# Altium schematic symbol library Resistor.SchLib: 141 symbols (part 3 of 4)
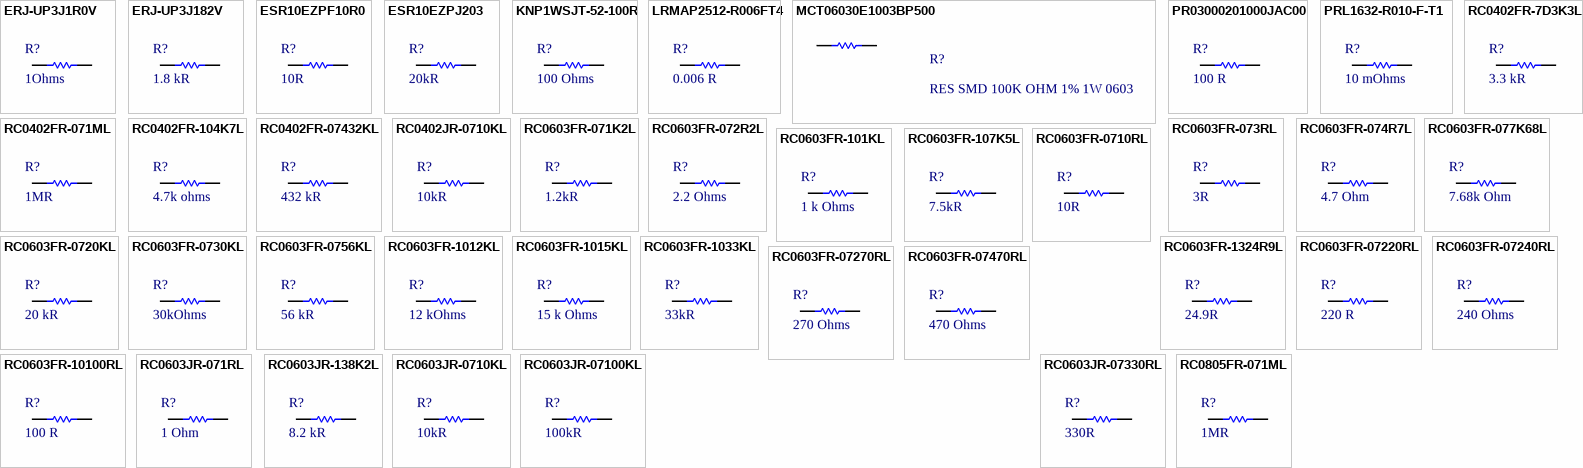
[diagram p5: symbols ERJ-UP3J1R0V to RC0805FR-071ML]

## ESR10EZPJ203
designator R?, comment 20kR
RES SMD 20K OHM 5% 2/5W 0805; Manufacturer: ROHM Semiconductor; Part Number: ESR10EZPJ203; Temperature Coefficient: 200 PPM / C; Power Rating: 400 mW(2/5 W); Voltage Rating: 150 V; Library Control - Checked Footprint: No; Library Control - Checked Schematic: Yes; Library Control - Person that Checked Schematic: Marcos; Library Control - Person that did the Last Update Footprint: Dalarme; Supplier 1: Mouser; Category: Thick Film Resistors - SMD; Price: 1=0,10, 10=0,076, 100=0,03 1000=0,012 (USD); Package / Case: 0805 (2012 Metric); Operating Temperature: - 55ºC ~ 155ºC; Value: 20kR; Tolerance: 5 %; Library Ref: Resistor; Resistor Type: Fixo; Size / Dimension: 2 mm L x  1.25 mm W x  0.55 mm H; Supplier Part Number 1: 755-ESR10EZPJ203; Library Control - Last Update: 21/06/21 15:33; Library Control - Person that did the Last Update Schematic: Marcos; ComponentLink1Description: Mouser Link; ComponentLink1URL: https://www.mouser.com/ProductDetail/ROHM-Semiconductor/ESR10EZPJ203?qs=DyUWGjl%252BcVvaVDHUMS24rg%3D%3D; ComponentLink2Description: Datasheet Link; ComponentLink2URL: https://www.mouser.com/datasheet/2/348/esr_e-1139161.pdf
footprint RESISTOR_0805
pins: 1, 2

## KNP1WSJT-52-100R
designator R?, comment 100 Ohms
RES PTH 100 OHM 5% 1W Axial; Manufacturer: YAGEO; Part Number: KNP1WSJT-52-100R; Temperature Coefficient: 300 PPM / C; Voltage Rating: 300V; Supplier 1: Mouser; Category: Wirewound Resistors - Through Hole; Price: 1= 0,22, 10= 0,13, 100= 0,053 (USD); Package / Case: Cut Tape; Operating Temperature: -40C ~ +200C; Value: 100 Ohms; Tolerance: 5%; Power Rating: 1 W; Library Ref: Resistor; Resistor Type: Fixed; Size / Dimension: 9mm/3.3mm; Supplier Part Number 1: 652-CFN0402-FX-R010E; ComponentLink1Description: Mouser Link; ComponentLink1URL: https://br.mouser.com/ProductDetail/YAGEO/KNP1WSJT-52-100R?qs=8rC6kCrFYJmohQ4OuMd4Fw%3D%3D; ComponentLink2Description: Datasheet; ComponentLink2URL: https://br.mouser.com/datasheet/2/447/yagos02165_1-2286674.pdf
footprint RESISTOR_THROUGH_HOLE
pins: 1, 2

## LRMAP2512-R006FT4
designator R?, comment 0.006 R
RES SMD 0.006 OHM 1% 3W 2512; Manufacturer: Welwyn Components / TT Electronics; Part Number: LRMAP2512-R006FT4; Temperature Coefficient: 50 PPM / C; Library Control - Checked Footprint: Yes; Library Control - Person that Checked Footprint: Nikaum; Library Control - Person that did the Last Update Footprint: Nicolas; Supplier 1: Mouser; Category: Current Sense Resistors - SMD; Price: 1 = 0,56, 25 = 0,403, 100 = 0,331 (USD); Package / Case: 2512 (6432 metric); Operating Temperature: - 55 C~170 C; Value: 0.006 R; Tolerance: 1%; Power Rating: 3 W; Voltage Rating: -; Library Ref: Resistor; Resistor Type: Fixo; Size / Dimension: 6,40 L x 3,20 W x 0,65 H; Supplier Part Number 1: 756-LRMAP2512R006FT4; Library Control - Checked Schematic: Yes; Library Control - Last Update: 27/06/2021 21:35; Library Control - Person that Checked Schematic: Nikaum; Library Control - Person that did the Last Update Schematic: Nikaum; ComponentLink1Description: Mouser Link; ComponentLink1URL: https://br.mouser.com/ProductDetail/Welwyn-Components-TT-Electronics/LRMAP2512-R006FT4?qs=GbEj%2Fc2lfnfWcu9yMDcoiQ%3D%3D; ComponentLink2Description: Datasheet Link; ComponentLink2URL: https://br.mouser.com/datasheet/2/414/LRMA-1528276.pdf
footprint RESISTOR_2512_SHUNT
pins: 1, 2

## MCT06030E1003BP500
designator R?, comment RES SMD 100K OHM 1% 1W 0603
footprint RESISTOR_0603
pins: 1, 2

## PR03000201000JAC00
designator R?, comment 100 R
RES PTH 100 OHM 5% 3W; Manufacturer: Vishay / BC Components; Part Number: PR03000201000JAC00; Temperature Coefficient: 250 PPM / C; Voltage Rating: 750 V; Library Control - Checked Footprint: Yes; Library Control - Person that Checked Footprint: Nikaum; Supplier 1: Mouser; Category: Metal Film Resistors - Through Hole; Price: 1 = 0,53, 100 = 0,286 (USD); Package / Case: Ammo Pack; Operating Temperature: - 55°C ~ 155°C; Value: 100 R; Tolerance: 5 %; Power Rating: 3 W; Library Ref: Resistor; Resistor Type: Fixed; Size / Dimension: 5,20 D x 16,70 L x 0,78 LD; Supplier Part Number 1: 594-5093NW100R0J; Library Control - Checked Schematic: Yes; Library Control - Last Update: 27/06/2021 20:43; Library Control - Person that Checked Schematic: Nikaum; Library Control - Person that did the Last Update Footprint: Nikaum; Library Control - Person that did the Last Update Schematic: Nikaum; ComponentLink1Description: Mouser Link; ComponentLink1URL: https://br.mouser.com/ProductDetail/Vishay-BC-Components/PR03000201000JAC00/?qs=HbLW8Yl3MFzoQdcSX5YM3A%3D%3D; ComponentLink2Description: Datasheet; ComponentLink2URL: https://br.mouser.com/datasheet/2/427/pr010203-1762580.pdf
footprint RESISTOR_THROUGH_HOLE
pins: 1, 2

## PRL1632-R010-F-T1
designator R?, comment 10 mOhms
RES SMD 10m Ohms 1% 1W 0612; Manufacturer: Susumu; Part Number: PRL1632-R010-F-T1; Temperature Coefficient: 0 PPM / C, +200 PPM / C; Library Control - Checked Footprint: Guilherme; Library Control - Last Project that Used: Fuijin-MK1; Supplier 1: Mouser; Category: Current Sense Resistors - SMD; Price: 1=0,69, 10=0,573, 100=0,384 (USD); Package / Case: 0612 (1632 Metric) (Reversed); Operating Temperature: - 40ºC ~ 125ºC; Value: 10 mOhms; Tolerance: 1%; Power Rating: 1 W; Library Ref: Resistor; Resistor Type: Fixo; Size / Dimension: 3,2 mm L x  1,6 mm W x  0,5 mm H; Supplier Part Number 1: 754-PRL1632-R010-FT1; Library Control - Checked Schematic: Guilherme; Library Control - Last Update: 17/07/21 13:17; Library Control - Person that Checked Footprint: Guilherme; Library Control - Person that Checked Schematic: Guilherme; Library Control - Person that did the Last Update Footprint: Guilherme; Library Control - Person that did the Last Update Schematic: Guilherme; ComponentLink1Description: Mouser Link; ComponentLink1URL: https://br.mouser.com/ProductDetail/Susumu/PRL1632-R010-F-T1?qs=%2Fha2pyFaduj75t3m8ty6AH76ugEyHZWP2N3BDRX2NOUYQUdKRtCIzQ%3D%3D; ComponentLink2Description: Datasheet Link; ComponentLink2URL: https://br.mouser.com/datasheet/2/392/n_catalog_partition07_en-1114612.pdf
footprint RESISTOR_1632
pins: 1, 2

## RC0402FR-7D3K3L
designator R?, comment 3.3 kR
RES SMD 3.3K OHM 1% 1/16W 0402; Manufacturer: Yageo; Part Number: RC0402FR-7D3K3L; Temperature Coefficient: 100 PPM / C; Power Rating: 62.5mW (1/16 W); Voltage Rating: 50 V; Library Control - Checked Footprint: Yes; Library Control - Person that Checked Footprint: Nikaum; Library Control - Person that did the Last Update Footprint: Nicolas; Supplier 1: Mouser; Category: Thick Film Resistors - SMD; Price: 1 = 0,10, 10 = 0,012, 100 = 0,004 (USD); Package / Case: 0402 (1005 metric); Operating Temperature: - 55 C~155 C; Value: 3.3 kR; Tolerance: 1 %; Library Ref: Resistor; Resistor Type: Fixo; Size / Dimension: 1,00 L x 0,50 W x 0,35 H; Supplier Part Number 1: 603-RC0402FR-7D3K3L; Library Control - Checked Schematic: Yes; Library Control - Last Update: 27/06/2021 21:09; Library Control - Person that Checked Schematic: Nikaum; Library Control - Person that did the Last Update Schematic: Nikaum; ComponentLink1Description: Mouser Link; ComponentLink1URL: https://br.mouser.com/ProductDetail/Yageo/RC0402FR-7D3K3L?qs=F5EMLAvA7IAfc9MDqhvj6Q%3D%3D; ComponentLink2Description: Datasheet Link; ComponentLink2URL: https://www.mouser.com/datasheet/2/447/PYu_RC_Group_51_RoHS_L_11-1984063.pdf
footprint RESISTOR_0402
pins: 1, 2

## RC0402FR-071ML
designator R?, comment 1MR
RES SMD 1M OHM 1% 1/16W 0402; Manufacturer: Yageo; Part Number: RC0402FR-071ML; Temperature Coefficient: 100 PPM / C; Power Rating: 62.5 mW (1/16 W); Voltage Rating: 50 V; Library Control - Checked Footprint: No; Library Control - Checked Schematic: Yes; Library Control - Person that Checked Schematic: Marcos; Library Control - Person that did the Last Update Footprint: Dalarme; Supplier 1: Mouser; Category: Thick Film Resistors - SMD; Price: 1=0,10, 10=0,012, 100=0,004 1000=0,003(USD); Package / Case: 0402 (1005 Metric); Operating Temperature: - 55ºC ~ 155ºC; Value: 1MR; Tolerance: 1 %; Library Ref: Resistor; Resistor Type: Fixo; Size / Dimension: 1 mm L x  0.5 mm W x  0.35 mm H; Supplier Part Number 1: 603-RC0402FR-071ML; Library Control - Last Update: 21/06/21 14:58; Library Control - Person that did the Last Update Schematic: Marcos; ComponentLink1Description: Mouser Link; ComponentLink1URL: https://br.mouser.com/ProductDetail/Yageo/RC0402FR-071ML?qs=%2Fha2pyFadugksLQP8sr8wZXmL%2F2We%252Bo7V7jdq5tRnxderr6VjPnrkg%3D%3D; ComponentLink2Description: Datasheet Link; ComponentLink2URL: https://br.mouser.com/datasheet/2/447/PYu_RC_Group_51_RoHS_L_10-1664068.pdf
footprint RESISTOR_0402
pins: 1, 2

## RC0402FR-104K7L
designator R?, comment 4.7k ohms
RES SMD 4.7k OHM 1% 1/16W 0402; Manufacturer: Yageo; Part Number: RC0402FR-104K7L; Temperature Coefficient: 100 PPM / C; Power Rating: 62.5 mW (1/16 W); Voltage Rating: 50 V; Library Control - Checked Footprint: Yes; Library Control - Person that Checked Footprint: Guilherme; Supplier 1: Mouser; Category: Thick Film Resistors - SMD; Price: 1=0,10, 10=0,012, 100=0,004 (USD); Package / Case: 0402 (1005 Metric); Operating Temperature: - 55ºC ~ 155ºC; Value: 4.7k ohms; Tolerance: 1 %; Library Ref: Resistor; Resistor Type: Fixed; Size / Dimension: 1.0 mm L x  0.5 mm W x  0.35 mm H; Supplier Part Number 1: 603-RC0402FR-104K7L; Library Control - Checked Schematic: Yes; Library Control - Last Update: 15/08/2021 20:20; Library Control - Person that Checked Schematic: Guilherme; Library Control - Person that did the Last Update Footprint: Guilherme; Library Control - Person that did the Last Update Schematic: Guilherme; ComponentLink1Description: Mouser Link; ComponentLink1URL: https://br.mouser.com/ProductDetail/YAGEO/RC0402FR-104K7L?qs=sGAEpiMZZMtlubZbdhIBIEgN9MQql2m68RLXfKuGLtY%3D; ComponentLink2Description: Datasheet; ComponentLink2URL: https://br.mouser.com/datasheet/2/447/PYu_RC_Group_51_RoHS_L_10-1664068.pdf
footprint RESC1005X40N
pins: 1, 2

## RC0402FR-07432KL
designator R?, comment 432 kR
RES SMD 432K OHM 1% 1/16W 0402; Manufacturer: Yageo; Part Number: RC0402FR-07432KL; Temperature Coefficient: 100 PPM / C; Power Rating: 125mW (1/8 W); Voltage Rating: 50 V; Library Control - Checked Footprint: Yes; Library Control - Person that Checked Footprint: Nikaum; Library Control - Person that did the Last Update Footprint: Nicolas; Supplier 1: Mouser; Category: Thick Film Resistors - SMD; Price: 1 = 0,10, 10 = 0,012, 100 = 0,004 (USD); Package / Case: 0402 (1005 metric); Operating Temperature: -55 C ~ 155 C; Value: 432 kR; Tolerance: 1 %; Library Ref: Resistor; Resistor Type: Fixo; Size / Dimension: 1,00 L x 0,50 W x 0,35 H; Supplier Part Number 1: 603-RC0402FR-07432KL; Library Control - Checked Schematic: Yes; Library Control - Last Update: 27/06/2021 21:43; Library Control - Person that Checked Schematic: Nikaum; Library Control - Person that did the Last Update Schematic: Nikaum; ComponentLink1Description: Mouser Link; ComponentLink1URL: https://br.mouser.com/ProductDetail/Yageo/RC0402FR-07432KL/?qs=%2Fha2pyFadugksLQP8sr8wU6OPm0Wm%2FkmPU7Grv7ugSLy0CqlM7cudYvSmYROs3es; ComponentLink2Description: Datasheet Link; ComponentLink2URL: https://br.mouser.com/datasheet/2/447/PYu_RC_Group_51_RoHS_L_10-1664068.pdf
footprint RESISTOR_0402
pins: 1, 2

## RC0402JR-0710KL
designator R?, comment 10kR
RES SMD 10K OHM 5% 1/16W 0402; Manufacturer: Yageo; Part Number: RC0402JR-0710KL; Temperature Coefficient: 100 PPM / C; Power Rating: 62.5 mW (1/16 W); Voltage Rating: 50 V; Library Control - Checked Footprint: Yes; Library Control - Person that Checked Footprint: Nikaum; Library Control - Person that did the Last Update Footprint: Dalarme; Supplier 1: Mouser; Category: Thick Film Resistors - SMD; Price: 1=0,10, 10=0,01, 100=0,004 1000=0,003 (USD); Package / Case: 0402 (1005 Metric); Operating Temperature: -55 C ~ 155 C; Value: 10kR; Tolerance: 5 %; Library Ref: Resistor; Resistor Type: Fixo; Size / Dimension: 1 mm L x  0.5 mm W x  0.35 mm H; Supplier Part Number 1: 603-RC0402JR-0710KL; Library Control - Checked Schematic: Yes; Library Control - Last Update: 27/06/2021 20:59; Library Control - Person that Checked Schematic: Nikaum; Library Control - Person that did the Last Update Schematic: Nikaum; ComponentLink1Description: Mouser Link; ComponentLink1URL: https://br.mouser.com/ProductDetail/Yageo/RC0402JR-0710KL?qs=%2Fha2pyFadugksLQP8sr8wSFqaMq1e9zbbX4dfYXawN%252BqoBT8jIbVcw%3D%3D; ComponentLink2Description: Datasheet Link; ComponentLink2URL: https://br.mouser.com/datasheet/2/447/PYu_RC_Group_51_RoHS_L_10-1664068.pdf
footprint RESISTOR_0402
pins: 1, 2

## RC0603FR-071K2L
designator R?, comment 1.2kR
RES SMD 1.2K OHM 1% 1/10W 0603; Manufacturer: Yageo; Part Number: RC0603FR-071K2L; Temperature Coefficient: 100 PPM / C; Power Rating: 100 mW (1/10 W); Voltage Rating: 75 V; Library Control - Checked Footprint: No; Library Control - Checked Schematic: Yes; Library Control - Person that Checked Schematic: Marcos; Library Control - Person that did the Last Update Footprint: Dalarme; Supplier 1: Mouser; Category: Thick Film Resistors - SMD; Price: 1=0,1000, 10=0,01800, 100=0,00600 1000=0,00500 (USD); Package / Case: 0603 (1608 Metric); Operating Temperature: - 55ºC ~ 155ºC; Value: 1.2kR; Tolerance: 1 %; Library Ref: Resistor; Resistor Type: Fixo; Size / Dimension: 1.6 mm L x  0.8 mm W x  0.45 mm H; Supplier Part Number 1: 603-RC0603FR-071K2L; Library Control - Last Update: 20/06/21 16:00; Library Control - Person that did the Last Update Schematic: Marcos; ComponentLink1Description: Mouser Link; ComponentLink1URL: https://br.mouser.com/ProductDetail/Yageo/RC0603FR-071K2L?qs=%2Fha2pyFaduiUxY9aBc7vYj6C2ygH7R2jVo05G3fpX5tbCK4vp0%2Fsww%3D%3D; ComponentLink2Description: New link; ComponentLink2URL: https://www.mouser.com/datasheet/2/447/Yageo_03_18_2021_PYu_RC_Group_51_RoHS_L_11-2199992.pdf
footprint RESISTOR_0603
pins: 1, 2

## RC0603FR-072R2L
designator R?, comment 2.2 Ohms
RES SMD 2.2 Ohms 1% 1/2W 0603; Manufacturer: Yageo; Part Number: RC0603FR-072R2L; Temperature Coefficient: 100 PPM/C; Power Rating: 100 mW (1/10W); Voltage Rating: 75V; Supplier 1: Mouser; Category: Current Sense Resistors - SMD; Price: 1=0,39, 10=0,304, 100=0,128 (USD); Package / Case: 0603; Operating Temperature: - 55ºC ~ 155ºC; Value: 2.2 Ohms; Tolerance: 1%; Library Ref: Resistor; Resistor Type: Fixo; Size / Dimension: 3,2 mm L x  1,6 mm W x  0,5 mm H; Supplier Part Number 1: 603-RC0603FR-072R2L; ComponentLink1Description: Mouser Link; ComponentLink1URL: https://br.mouser.com/ProductDetail/YAGEO/RC0603FR-072R2L?qs=sGAEpiMZZMtlubZbdhIBIFNWbUcZeLF5piqDSPsqyXA%3D; ComponentLink2Description: Datasheet Link; ComponentLink2URL: https://br.mouser.com/datasheet/2/447/PYu_RC_Group_51_RoHS_L_11-1984063.pdf
footprint RESISTOR_0603
pins: 1, 2

## RC0603FR-073RL
designator R?, comment 3R
RES SMD 3 OHM 1% 1/10W 0603; Manufacturer: Yageo; Part Number: RC0603FR-073RL; Temperature Coefficient: 200 PPM / C; Power Rating: 100 mW (1/10 W); Voltage Rating: 75 V; Library Control - Checked Footprint: Yes; Library Control - Person that Checked Footprint: Nikaum; Library Control - Person that did the Last Update Footprint: Dalarme; Supplier 1: Mouser; Category: Thick Film Resistors - SMD; Price: 1=0,15, 10=0,036, 100=0,012 (USD); Package / Case: 0603 (1608 Metric); Operating Temperature: - 55ºC ~ 155ºC; Value: 3R; Tolerance: 1 %; Library Ref: Resistor; Resistor Type: Fixed; Size / Dimension: 1.6 mm L x  0.8 mm W x  0.45 mm H; Supplier Part Number 1: 603-RC0603FR-073RL; Library Control - Checked Schematic: Yes; Library Control - Last Update: 27/06/2021 20:20; Library Control - Person that Checked Schematic: Nikaum; Library Control - Person that did the Last Update Schematic: Dalarme; ComponentLink1Description: Mouser Link; ComponentLink1URL: https://br.mouser.com/ProductDetail/Yageo/RC0603FR-073RL?qs=%2Fha2pyFaduiUxY9aBc7vYmnimlMbY96pRvxoLPmTRDKaTRqOY5X3Sw%3D%3D; ComponentLink2Description: Datasheet; ComponentLink2URL: https://br.mouser.com/datasheet/2/447/Yageo_03_18_2021_PYu_RC_Group_51_RoHS_L_11-2199992.pdf
footprint RESISTOR_0603
pins: 1, 2

## RC0603FR-074R7L
designator R?, comment 4.7 Ohm
RES SMD 4.7 OHM 1% 1/10 W 0603; Manufacturer: YAGEO; Part Number: RC0603FR-074R7L; Temperature Coefficient: 200 PPM/C; Power Rating: 1/10 W; Voltage Rating: 75 V; Library Control - Person that did the Last Update Footprint: Breno (Omega); Supplier 1: Mouser; Category: Thick Film Resistor; Price: 1 = 0.10, 10 = 0.048, 100 = 0.02(USD); Package / Case: 0603; Operating Temperature: -55°C ~ 155°C; Value: 4.7 Ohm; Tolerance: 1%; Library Ref: Resistor; Resistor Type: Fixo; Size / Dimension: 0.8mm x 1.6mm x 0.45mm; Supplier Part Number 1: 603-RC0603FR-074R7L; Library Control - Person that did the Last Update Schematic: Breno (Omega); ComponentLink1Description: Mouser Link; ComponentLink1URL: https://br.mouser.com/ProductDetail/YAGEO/RC0603FR-074R7L?qs=gt6vzsuosg08l2lIFTPhvw%3D%3D; ComponentLink2Description: Datasheet; ComponentLink2URL: https://br.mouser.com/datasheet/2/447/PYu_RC_Group_51_RoHS_L_11-1984063.pdf
footprint RESISTOR_0603
pins: 1, 2

## RC0603FR-077K68L
designator R?, comment 7.68k Ohm
RES SMD 7.68k OHM 1% 1/10 W 0603; Manufacturer: YAGEO; Part Number: RC0603FR-077K68L; Temperature Coefficient: 100 PPM/C; Power Rating: 1/10 W; Voltage Rating: 75 V; Library Control - Person that did the Last Update Footprint: Breno (Omega); Supplier 1: Mouser; Category: Thick Film Resistor; Price: 1 = 0.10, 10 = 0.023, 100 = 0.009(USD); Package / Case: 0603; Operating Temperature: -55°C ~ 155°C; Value: 7.68k Ohm; Tolerance: 1%; Library Ref: Resistor; Resistor Type: Fixo; Size / Dimension: 0.8mm x 1.6mm x 0.45mm; Supplier Part Number 1: 603-RC0603FR-077K68L; Library Control - Person that did the Last Update Schematic: Breno (Omega); ComponentLink1Description: Mouser Link; ComponentLink1URL: https://br.mouser.com/ProductDetail/YAGEO/RC0603FR-077K68L?qs=ksOUTF%2FWcd%252BrhGyrfgzF%252Bg%3D%3D; ComponentLink2Description: Datasheet; ComponentLink2URL: https://br.mouser.com/datasheet/2/447/PYu_RC_Group_51_RoHS_L_11-1984063.pdf
footprint RESISTOR_0603
pins: 1, 2

## RC0603FR-101KL
designator R?, comment 1 k Ohms
RES SMD 1 kOhms 1% 100-200mW 0603; Manufacturer: YAGEO; Part Number: RC0603FR-101KL; Temperature Coefficient: 100 PPM / C; Power Rating: 100 mW (1/10 W), 200 mw (1/5 W); Voltage Rating: 75V; Library Control - Person that Checked Footprint: Firme; Supplier 1: Mouser; Category: Current Sense Resistors - SMD; Price: 1= 0,10, 10= 0,017, 100= 0,007 (USD); Package / Case: 0603 (1608 metric); Operating Temperature: -55C ~ +155C; Value: 1 k Ohms; Tolerance: 1%; Library Ref: Resistor; Resistor Type: Fixed; Size / Dimension: 1.6mm L x 0.8mm W x 0.45mm H; Supplier Part Number 1: 603-RC0603FR-101KL; Library Control - Last Update: 16/08/2022; Library Control - Person that Checked Schematic: Firme; Library Control - Person that did the Last Update Footprint: Firme; Library Control - Person that did the Last Update Schematic: Firme; ComponentLink1Description: Mouser Link; ComponentLink1URL: https://br.mouser.com/ProductDetail/YAGEO/RC0603FR-101KL?qs=EiqXWrxQq63MM0wzm69ZKg%3D%3D; ComponentLink2Description: Datasheet; ComponentLink2URL: https://br.mouser.com/datasheet/2/447/PYu_RC_Group_51_RoHS_L_11-1984063.pdf
footprint RESC1608X55N
pins: 1, 2

## RC0603FR-107K5L
designator R?, comment 7.5kR
RES SMD 7.5K OHM 1% 1/10W 0603; Manufacturer: Yageo; Part Number: RC0603FR-107K5L; Temperature Coefficient: 100ppm/°C; Power Rating: 100mW; Voltage Rating: 75V; Library Control - Last Project that Used: Follow-Final; Library Control - Person that did the Last Update Footprint: Lucas; Supplier 1: Mouser; Category: Chip SMD Resistors; Price: 1=0,10000, 10=0,01800, 100=0,00600 (USD); Package / Case: 0603 (1608 Metric); Operating Temperature: -55°C ~ 155°C; Value: 7.5kR; Tolerance: 1%; Library Ref: Resistor; Resistor Type: Thick Film; Size / Dimension: 1.6 mm L x  0.8 mm W x  0.45 mm H; Supplier Part Number 1: 603-RC0603FR-107K5L; Library Control - Checked Footprint: -; Library Control - Checked Schematic: -; Library Control - Last Update: 23/08/2021 13:00; Library Control - Person that Checked Footprint: -; Library Control - Person that Checked Schematic: -; Library Control - Person that did the Last Update Schematic: Lucas; ComponentLink1Description: Datasheet; ComponentLink1URL: https://br.mouser.com/datasheet/2/447/Yageo_03_18_2021_PYu_RC_Group_51_RoHS_L_11-2199992.pdf; ComponentLink2Description: Mouser Link; ComponentLink2URL: https://br.mouser.com/ProductDetail/YAGEO/RC0603FR-107K5L?qs=%2Fha2pyFaduhXXNW8qwNUNgu8lRANeCAKOQ1ratSDowgZqJiCKeukOw%3D%3D
footprint RESISTOR_0603
pins: 1, 2

## RC0603FR-0710RL
designator R?, comment 10R
RES SMD 10 OHM 1% 1/10W 0603; Manufacturer: Yageo; Part Number: RC0603FR-0710RL; Temperature Coefficient: 200 PPM / C; Power Rating: 100 mW (1/10 W); Voltage Rating: 75 V; Library Control - Checked Footprint: No; Library Control - Checked Schematic: Yes; Library Control - Person that Checked Schematic: Marcos; Library Control - Person that did the Last Update Footprint: Dalarme; Supplier 1: Mouser; Category: Thick Film Resistors - SMD; Price: 1=0,1000, 10=0,0360, 100=0,0120 1000=0,008(USD); Package / Case: 0603 (1608 Metric); Operating Temperature: - 55ºC ~ 155ºC; Value: 10R; Tolerance: 1%; Library Ref: Resistor; Resistor Type: Fixo; Size / Dimension: 1.6 mm L x  0.8 mm W x  0.45 mm H; Supplier Part Number 1: 603-RC0603FR-0710RL; Library Control - Last Update: 20/06/21 16:16; Library Control - Person that did the Last Update Schematic: Dalarme; ComponentLink1Description: Mouser Link; ComponentLink1URL: https://br.mouser.com/ProductDetail/Yageo/RC0603FR-0710RL?qs=%2Fha2pyFaduiUxY9aBc7vYj6C2ygH7R2jV%2F5jI5qqF%2F1lF1E5UhUHhA%3D%3D; ComponentLink2Description: Datasheet Link; ComponentLink2URL: https://www.mouser.com/datasheet/2/447/Yageo_03_18_2021_PYu_RC_Group_51_RoHS_L_11-2199992.pdf
footprint RESISTOR_0603
pins: 1, 2

## RC0603FR-0720KL
designator R?, comment 20 kR
RES SMD 20 K OHM 1% 1/10W 0603; Manufacturer: Yageo; Part Number: RC0603FR-0720KL; Temperature Coefficient: 100 PPM / C; Power Rating: 100mW (1/10 W); Voltage Rating: 75 V; Library Control - Checked Footprint: No; Library Control - Checked Schematic: Yes; Library Control - Person that Checked Schematic: Guilherme; Library Control - Person that did the Last Update Schematic: Marcos; Supplier 1: Mouser; Category: Thick Film Resistors; Price: 1 = 0,10, 10 = 0,018, 100 = 0,007 (USD); Package / Case: 0603 (1608 Metric); Operating Temperature: -55°C ~ 155°C; Value: 20 kR; Tolerance: 1 %; Library Ref: Resistor; Resistor Type: Fixed; Size / Dimension: 1,60 L x 0,80 W x 0,45 H; Supplier Part Number 1: 603-RC0603FR-0720KL; Library Control - Last Update: 26/06/21 16:38; ComponentLink6Description: Mouser Link; ComponentLink6URL: https://br.mouser.com/ProductDetail/Yageo/RC0603FR-0720KL?qs=sGAEpiMZZMvdGkrng054t8Tx25L%252BvTaRAnHrGs2dkHE%3D; ComponentLink7Description: Datasheet Link; ComponentLink7URL: https://br.mouser.com/datasheet/2/447/Yageo_03_18_2021_PYu_RC_Group_51_RoHS_L_11-2199992.pdf
footprint RESISTOR_0603
pins: 1, 2

## RC0603FR-0730KL
designator R?, comment 30kOhms
RES SMD 30 kOHMS 1% 1/10W 0603; Manufacturer: YAGEO; Part Number: RC0603FR-0730KL; Temperature Coefficient: 100 PPM / C; Power Rating: 100 mW (1/10 W); Voltage Rating: 50 V; Library Control - Checked Footprint: Yes; Library Control - Person that Checked Footprint: Guilherme; Supplier 1: Mouser; Category: Thick Film Resistors - SMD; Price: 1=0,10, 10=0,024, 100=0,01(USD); Package / Case: 0603 (1608 Metric); Operating Temperature: - 55°C ~ 155°C; Value: 30kOhms; Tolerance: 1 %; Library Ref: Resistor; Resistor Type: Fixo; Size / Dimension: 1,6 L x 0,8 W x 0,45 H; Supplier Part Number 1: 603-RC0603FR-0730KL; Library Control - Checked Schematic: Yes; Library Control - Last Update: 24/07/2021 11:34; Library Control - Person that Checked Schematic: Guilherme; Library Control - Person that did the Last Update Footprint: Guilherme; Library Control - Person that did the Last Update Schematic: Guilherme; ComponentLink1Description: Mouser Link; ComponentLink1URL: https://br.mouser.com/ProductDetail/YAGEO/RC0603FR-0730KL?qs=diQw95jMAeNFr44yr782FQ%3D%3D; ComponentLink2Description: Datasheet; ComponentLink2URL: https://br.mouser.com/datasheet/2/447/Yageo_03_18_2021_PYu_RC_Group_51_RoHS_L_11-2199992.pdf
footprint RESC1608X55N
pins: 1, 2

## RC0603FR-0756KL
designator R?, comment 56 kR
RES SMD 56K OHM 1% 1/10W 0603; Manufacturer: Yageo; Part Number: RC0603FR-0756KL; Temperature Coefficient: 100 PPM / C; Power Rating: 100mW (1/10 W); Voltage Rating: 75 V; Library Control - Checked Footprint: Yes; Library Control - Person that Checked Footprint: Nikaum; Library Control - Person that did the Last Update Footprint: Nicolas; Supplier 1: Mouser; Category: Thick Film Resistors - SMD; Price: 1 = 0,10, 10 = 0,023, 100 = 0,009 (USD); Package / Case: 0603 (1608 metric); Operating Temperature: - 55 C~155 C; Value: 56 kR; Tolerance: 1 %; Library Ref: Resistor; Resistor Type: Fixo; Size / Dimension: 1,60 L x 0,80 W x 0,45 H; Supplier Part Number 1: 603-RC0603FR-0756KL; Library Control - Checked Schematic: Yes; Library Control - Last Update: 27/06/2021 21:13; Library Control - Person that Checked Schematic: Nikaum; Library Control - Person that did the Last Update Schematic: Nikaum; ComponentLink1Description: Mouser Link; ComponentLink1URL: https://br.mouser.com/ProductDetail/Yageo/RC0603FR-0756KL/?qs=gt6vzsuosg2TemPyt%2FVaqg%3D%3D; ComponentLink2Description: Datasheet Link; ComponentLink2URL: https://br.mouser.com/datasheet/2/447/Yageo_03_18_2021_PYu_RC_Group_51_RoHS_L_11-2199992.pdf
footprint RESISTOR_0603
pins: 1, 2

## RC0603FR-1012KL
designator R?, comment 12 kOhms
RES SMD 12 kOhms 1% 100 mW 0603; Manufacturer: YAGEO; Part Number: RC0603FR-1012KL; Temperature Coefficient: 100 PPM / C; Power Rating: 100 mW (1/10 W); Voltage Rating: 75V; Library Control - Person that Checked Footprint: Firme; Supplier 1: Mouser; Category: Current Sense Resistors - SMD; Price: 1= 0,10, 10= 0,024, 100= 0,009 (USD); Package / Case: 0603 (1608 metric); Operating Temperature: -55C ~ +155C; Value: 12 kOhms; Tolerance: 1%; Library Ref: Resistor; Resistor Type: Fixed; Size / Dimension: 1.6mm L x 0.8mm W x 0.45mm H; Supplier Part Number 1: 603-RC0603FR-1012KL; Library Control - Last Update: 16/08/2022; Library Control - Person that Checked Schematic: Firme; Library Control - Person that did the Last Update Footprint: Firme; Library Control - Person that did the Last Update Schematic: Firme; ComponentLink1Description: Mouser Link; ComponentLink1URL: https://br.mouser.com/ProductDetail/YAGEO/RC0603FR-1012KL?qs=qpJ%252B%252B%252Bdg6p2RSIF4nF62bA%3D%3D; ComponentLink2Description: Datasheet; ComponentLink2URL: https://br.mouser.com/datasheet/2/447/PYu_RC_Group_51_RoHS_L_11-1984063.pdf
footprint RESISTOR_0603
pins: 1, 2

## RC0603FR-1015KL
designator R?, comment 15 k Ohms
RES SMD 15 kOhms 1% 100-200 mW 0603; Manufacturer: YAGEO; Part Number: RC0603FR-1015KL; Temperature Coefficient: 100 PPM / C; Power Rating: 100 mW (1/10 W), 200 mw (1/5 W); Voltage Rating: 75V; Library Control - Person that Checked Footprint: Firme; Supplier 1: Mouser; Category: Current Sense Resistors - SMD; Price: 1= 0,10, 10= 0,024, 100= 0,008 (USD); Package / Case: 0603 (1608 metric); Operating Temperature: -55C ~ +155C; Value: 15 k Ohms; Tolerance: 1%; Library Ref: Resistor; Resistor Type: Fixed; Size / Dimension: 1.6mm L x 0.8mm W x 0.45mm H; Supplier Part Number 1: 603-RC0603FR-1015KL; Library Control - Last Update: 16/08/2022; Library Control - Person that Checked Schematic: Firme; Library Control - Person that did the Last Update Footprint: Firme; Library Control - Person that did the Last Update Schematic: Firme; ComponentLink1Description: Mouser Link; ComponentLink1URL: https://br.mouser.com/ProductDetail/YAGEO/RC0603FR-1015KL?qs=EiqXWrxQq61HhvsANs7j4w%3D%3D; ComponentLink2Description: Datasheet; ComponentLink2URL: https://br.mouser.com/datasheet/2/447/PYu_RC_Group_51_RoHS_L_11-1984063.pdf
footprint RESISTOR_0603
pins: 1, 2

## RC0603FR-1033KL
designator R?, comment 33kR
RES SMD 33K OHM 1% 1/10W 0603; Manufacturer: Yageo; Part Number: RC0603FR-1033KL; Temperature Coefficient: 100ppm/°C; Power Rating: 100mW; Voltage Rating: 75V; Library Control - Last Project that Used: Follow-Final; Library Control - Person that did the Last Update Footprint: Lucas; Supplier 1: Mouser; Category: Chip SMD Resistors; Price: 1=0,10000, 10=0,01800, 100=0,00600 (USD); Package / Case: 0603 (1608 Metric); Operating Temperature: -55°C ~ 155°C; Value: 33kR; Tolerance: 1%; Library Ref: Resistor; Resistor Type: Thick Film; Size / Dimension: 1.6 mm L x  0.8 mm W x  0.45 mm H; Supplier Part Number 1: 603-RC0603FR-1033KL; Library Control - Checked Footprint: -; Library Control - Checked Schematic: -; Library Control - Last Update: 23/08/2021 13:00; Library Control - Person that Checked Footprint: -; Library Control - Person that Checked Schematic: -; Library Control - Person that did the Last Update Schematic: Lucas; ComponentLink1Description: Datasheet; ComponentLink1URL: https://br.mouser.com/datasheet/2/447/Yageo_03_18_2021_PYu_RC_Group_51_RoHS_L_11-2199992.pdf; ComponentLink2Description: Mouser Link; ComponentLink2URL: https://br.mouser.com/ProductDetail/YAGEO/RC0603FR-1033KL?qs=EiqXWrxQq62JsT9Baj%2F%2FJA%3D%3D
footprint RESISTOR_0603
pins: 1, 2

## RC0603FR-1324R9L
designator R?, comment 24.9R
RES SMD 24.9 OHM 1% 1/10W 0603; Manufacturer: Yageo; Part Number: RC0603FR-1324R9L; Temperature Coefficient: 100 PPM / C; Power Rating: 100 mW (1/10 W); Voltage Rating: 75 V; Library Control - Checked Footprint: Yes; Library Control - Person that Checked Footprint: Nikaum; Library Control - Person that Checked Schematic: Guilherme; Library Control - Person that did the Last Update Footprint: Dalarme; Supplier 1: Mouser; Category: Thick Film Resistors - SMD; Price: 1=0,10, 10=0,018, 100=0,006 (USD); Package / Case: 0603 (1608 Metric); Operating Temperature: - 55ºC ~ 155ºC; Value: 24.9R; Tolerance: 1 %; Library Ref: Resistor; Resistor Type: Fixed; Size / Dimension: 1.6 mm L x  0.8 mm W x  0.45 mm H; Supplier Part Number 1: 603-RC0603FR-1324R9L; Library Control - Checked Schematic: Yes; Library Control - Last Update: 27/06/2021 20:28; Library Control - Person that did the Last Update Schematic: Dalarme; ComponentLink1Description: Mouser Link; ComponentLink1URL: https://br.mouser.com/ProductDetail/Yageo/RC0603FR-1324R9L?qs=%2Fha2pyFaduiUxY9aBc7vYq52gu2iPPwwy7w8XSPc0OESwaoMfPt58VFfWLNv%252BiGr; ComponentLink2Description: Datasheet; ComponentLink2URL: https://br.mouser.com/datasheet/2/447/Yageo_03_18_2021_PYu_RC_Group_51_RoHS_L_11-2199992.pdf
footprint RESISTOR_0603
pins: 1, 2

## RC0603FR-07220RL
designator R?, comment 220 R
RES SMD 220 OHM 1% 1/10W 0603; Manufacturer: Yageo; Part Number: RC0603FR-07220RL; Temperature Coefficient: 100 PPM / C; Power Rating: 100mW (1/10 W); Voltage Rating: 75 V; Library Control - Checked Footprint: Yes; Library Control - Person that Checked Footprint: Nikaum; Library Control - Person that did the Last Update Footprint: Nicolas; Supplier 1: Mouser; Category: Thick Film Resistors - SMD; Price: 1 = 0,10, 10 = 0,018, 100 = 0,007 (USD); Package / Case: 0603 (1608 metric); Operating Temperature: - 55 C~155 C; Value: 220 R; Tolerance: 1 %; Library Ref: Resistor; Resistor Type: Fixo; Size / Dimension: 1,60 L x 0,80 W x 0,45 H; Supplier Part Number 1: 603-RC0603FR-07220RL; Library Control - Checked Schematic: Yes; Library Control - Last Update: 27/06/2021 21:21; Library Control - Person that Checked Schematic: Nikaum; Library Control - Person that did the Last Update Schematic: Nikaum; ComponentLink1Description: Mouser Link; ComponentLink1URL: https://br.mouser.com/ProductDetail/Yageo/RC0603FR-07220RL/?qs=VU8sRB4EgwA1IyQ0vhXEEw%3D%3D; ComponentLink2Description: Datasheet Link; ComponentLink2URL: https://br.mouser.com/datasheet/2/447/Yageo_03_18_2021_PYu_RC_Group_51_RoHS_L_11-2199992.pdf
footprint RESISTOR_0603
pins: 1, 2

## RC0603FR-07240RL
designator R?, comment 240 Ohms
RES SMD 240 OHM 1% 1/10W 0603; Manufacturer: YAGEO; Part Number: RC0603FR-07240RL; Temperature Coefficient: 100 PPM / C; Power Rating: 1/10 W (100 mW); Supplier 1: Mouser; Category: Current Sense Resistors - SMD; Price: 1= 0,10, 10= 0,024, 100= 0,01 (USD); Package / Case: 0603 (1608 metric); Operating Temperature: -55C ~ +155C; Value: 240 Ohms; Tolerance: 1%; Voltage Rating: -; Library Ref: Resistor; Resistor Type: Fixed; Size / Dimension: 1.6mm L x 0.8mm W x 0.45mm H; Supplier Part Number 1: 603-RC0603FR-07240RL; ComponentLink1Description: Mouser Link; ComponentLink1URL: https://br.mouser.com/ProductDetail/YAGEO/RC0603FR-07240RL?qs=%2Fha2pyFaduiUxY9aBc7vYsXmDGghjtsAaASQnplf3Fe6IIYOTbEeqCNZ6k5LKUyr; ComponentLink2Description: Datasheet; ComponentLink2URL: https://br.mouser.com/datasheet/2/447/Yageo_03_18_2021_PYu_RC_Group_51_RoHS_L_11-2199992.pdf
footprint RESC1608X55N
pins: 1, 2

## RC0603FR-07270RL
designator R?, comment 270 Ohms
RES SMD 270 Ohms 1% 100mW 0603; Manufacturer: YAGEO; Part Number: RC0603FR-07270RL; Temperature Coefficient: 100 PPM / C; Power Rating: 100 mW (1/10 W); Voltage Rating: 75V; Library Control - Person that Checked Footprint: Firme; Supplier 1: Mouser; Category: Current Sense Resistors - SMD; Price: 1= 0,10, 10= 0,024, 100= 0,007 (USD); Package / Case: 0603 (1608 metric); Operating Temperature: -55C ~ +155C; Value: 270 Ohms; Tolerance: 1%; Library Ref: Resistor; Resistor Type: Fixed; Size / Dimension: 1.6mm L x 0.8mm W x 0.45mm H; Supplier Part Number 1: 603-RC0603FR-07270RL; Library Control - Last Update: 16/08/2022; Library Control - Person that Checked Schematic: Firme; Library Control - Person that did the Last Update Footprint: Firme; Library Control - Person that did the Last Update Schematic: Firme; ComponentLink1Description: Mouser Link; ComponentLink1URL: https://br.mouser.com/ProductDetail/YAGEO/RC0603FR-07270RL?qs=diQw95jMAePl%252BPNr4oNP6Q%3D%3D; ComponentLink2Description: Datasheet; ComponentLink2URL: https://br.mouser.com/datasheet/2/447/PYu_RC_Group_51_RoHS_L_11-1984063.pdf
footprint RESISTOR_0603
pins: 1, 2

## RC0603FR-07470RL
designator R?, comment 470 Ohms
RES SMD 470 Ohms 1% 1/10W 0603; Manufacturer: YAGEO; Part Number: RC0603FR-07470RL; Temperature Coefficient: 100 PPM / C; Power Rating: 1/10 W (100 mW); Voltage Rating: 75V; Library Control - Person that Checked Footprint: Firme; Supplier 1: Mouser; Category: Current Sense Resistors - SMD; Price: 1= 0,10, 10= 0,024, 100= 0,007 (USD); Package / Case: 0603 (1608 metric); Operating Temperature: -55C ~ +155C; Value: 470 Ohms; Tolerance: 1%; Library Ref: Resistor; Resistor Type: Fixed; Size / Dimension: 1.6mm L x 0.8mm W x 0.45mm H; Supplier Part Number 1: 603-RC0603FR-07470RL; Library Control - Last Update: 16/08/2022; Library Control - Person that Checked Schematic: Firme; Library Control - Person that did the Last Update Footprint: Firme; Library Control - Person that did the Last Update Schematic: Firme; ComponentLink1Description: Mouser Link; ComponentLink1URL: https://br.mouser.com/ProductDetail/YAGEO/RC0603FR-07470RL?qs=gt6vzsuosg2Xv5elfMBXPA%3D%3D; ComponentLink2Description: Datasheet; ComponentLink2URL: https://br.mouser.com/datasheet/2/447/PYu_RC_Group_51_RoHS_L_11-1984063.pdf
footprint RESISTOR_0603
pins: 1, 2

## RC0603FR-10100RL
designator R?, comment 100 R
RES SMD 100 OHM 1% 1/10W 0603; Manufacturer: Yageo; Part Number: RC0603FR-10100RL; Temperature Coefficient: 100 PPM / C; Power Rating: 100mW (1/10W); Voltage Rating: 75 V; Library Control - Checked Footprint: Yes; Library Control - Person that Checked Footprint: Nikaum; Library Control - Person that did the Last Update Footprint: Nicolas; Supplier 1: Mouser; Category: Thick Film Resistors - SMD; Price: 1 = 0,10, 10 = 0,018, 100 = 0,006 (USD); Package / Case: 0603 (1608 metric); Operating Temperature: - 55 C~155 C; Value: 100 R; Tolerance: 1 %; Library Ref: Resistor; Resistor Type: Fixo; Size / Dimension: 1,60 L x 0,80 W x 0,45 H; Supplier Part Number 1: 603-RC0603FR-10100RL; Library Control - Checked Schematic: Yes; Library Control - Last Update: 27/06/2021 21:11; Library Control - Person that Checked Schematic: Nikaum; Library Control - Person that did the Last Update Schematic: Nikaum; ComponentLink1Description: Mouser Link; ComponentLink1URL: https://br.mouser.com/ProductDetail/Yageo/RC0603FR-10100RL/?qs=EiqXWrxQq62RG9T9SdQg0g==; ComponentLink2Description: Datasheet Link; ComponentLink2URL: https://br.mouser.com/datasheet/2/447/Yageo_03_18_2021_PYu_RC_Group_51_RoHS_L_11-2199992.pdf
footprint RESISTOR_0603
pins: 1, 2

## RC0603JR-071RL
designator R?, comment 1 Ohm
RES SMD 1 OHM 1% 1/10W 0603; Manufacturer: Yageo; Part Number: RC0603JR-071RL; Temperature Coefficient: 200 PPM / C; Power Rating: 125mW (1/8 W); Voltage Rating: 75 V; Supplier 1: Mouser; Category: Thick Film Resistors - SMD; Price: 1 = 0,10, 10 = 0,06, 100 = 0,021 (USD); Package / Case: 0805 (2012 Metric); Operating Temperature: - 55 C~155 C; Value: 1 Ohm; Tolerance: 1 %; Library Ref: Resistor; Resistor Type: Fixo; Size / Dimension: 2  L x 1,25 W x 0,5 H; Supplier Part Number 1: 603-RC0805FR-071RL; ComponentLink1Description: Mouser Link; ComponentLink1URL: https://br.mouser.com/ProductDetail/YAGEO/RC0603JR-071RL?qs=sGAEpiMZZMtlubZbdhIBIAVdtiC5pVGK9tXijVfrDbs%3D; ComponentLink2Description: Datasheet Link; ComponentLink2URL: https://br.mouser.com/datasheet/2/447/PYu_RC_Group_51_RoHS_L_11-1984063.pdf
footprint RESISTOR_0603
pins: 1, 2

## RC0603JR-138K2L
designator R?, comment 8.2 kR
RES SMD 8.2K OHM 5% 1/10W 0603; Manufacturer: Yageo; Part Number: RC0603JR-138K2L; Temperature Coefficient: 100 PPM / C; Power Rating: 100mW (1/10 W); Voltage Rating: 75 V; Library Control - Checked Footprint: Yes; Library Control - Person that Checked Footprint: Nikaum; Library Control - Person that did the Last Update Footprint: Nicolas; Supplier 1: Mouser; Category: Thick Film Resistors - SMD; Price: 1 = 0,10, 10 = 0,015, 100 = 0,005 (USD); Package / Case: 0603 (1608 metric); Operating Temperature: - 55 C~125 C; Value: 8.2 kR; Tolerance: 5 %; Library Ref: Resistor; Resistor Type: Fixo; Size / Dimension: 1,60 L x 0,80 W x 0,45 H; Supplier Part Number 1: 603-RC0603JR-138K2L; Library Control - Checked Schematic: Yes; Library Control - Last Update: 27/06/2021 21:05; Library Control - Person that Checked Schematic: Nikaum; Library Control - Person that did the Last Update Schematic: Nikaum; ComponentLink1Description: Mouser Link; ComponentLink1URL: https://br.mouser.com/ProductDetail/Yageo/RC0603JR-138K2L?qs=rShlJ6XU4qktKJ57BXDZQg%3D%3D; ComponentLink2Description: datasheet Link; ComponentLink2URL: https://www.mouser.com/datasheet/2/447/PYu_RC_Group_51_RoHS_L_11-1984063.pdf
footprint RESISTOR_0603
pins: 1, 2

## RC0603JR-0710KL
designator R?, comment 10kR
RES SMD 10K OHM 5% 1/10W 0603; Manufacturer: Yageo; Part Number: RC0603JR-0710KL; Temperature Coefficient: 100 PPM / C; Power Rating: 100 mW (1/10 W); Voltage Rating: 75 V; Library Control - Checked Footprint: No; Library Control - Checked Schematic: Yes; Library Control - Person that Checked Schematic: Marcos; Library Control - Person that did the Last Update Footprint: Dalarme; Supplier 1: Mouser; Category: Thick Film Resistors - SMD; Price: 1=0,10, 10=0,015, 100=0,005 1000=0,0040 (USD); Package / Case: 0603 (1608 Metric); Operating Temperature: - 55ºC ~ 155ºC; Value: 10kR; Tolerance: 5 %; Library Ref: Resistor; Resistor Type: Fixo; Size / Dimension: 1.6 mm L x  0.8 mm W x  0.45 mm H; Supplier Part Number 1: 603-RC0603JR-0710KL; Library Control - Last Update: 21/06/21 14:15; Library Control - Person that did the Last Update Schematic: Marcos; ComponentLink1Description: Mouser Link; ComponentLink1URL: https://br.mouser.com/ProductDetail/Yageo/RC0603JR-0710KL?qs=ksOUTF%2FWcd8D6T22BJkQ7g%3D%3D; ComponentLink2Description: Datsheet Link; ComponentLink2URL: https://br.mouser.com/datasheet/2/447/Yageo_03_18_2021_PYu_RC_Group_51_RoHS_L_11-2199992.pdf
footprint RESISTOR_0603
pins: 1, 2

## RC0603JR-07100KL
designator R?, comment 100kR
RES SMD 100K OHM 5% 1/10W 0603; Manufacturer: Yageo; Part Number: RC0603JR-07100KL; Temperature Coefficient: 100 PPM / C; Power Rating: 100 mW (1/10 W); Voltage Rating: 75 V; Library Control - Checked Footprint: Yes; Library Control - Person that Checked Footprint: Stéfany (Ster); Library Control - Person that did the Last Update Footprint: Dalarme; Library Control - Person that did the Last Update Schematic: Marcos; Supplier 1: Mouser; Category: Thick Film Resistors - SMD; Price: 1=0,10, 10=0,02, 100=0,008, 1000=0,004 (USD); Package / Case: 0603 (1608 Metric); Operating Temperature: -55ºC~155ºC; Value: 100kR; Tolerance: 5%; Library Ref: Resistor; Resistor Type: Fixed; Size / Dimension: 1,6 L x  0,8 W x  0,45 H (mm); Supplier Part Number 1: 603-RC0603JR-07100KL; Library Control - Checked Schematic: Yes; Library Control - Last Update: 21/06/21 14:12; Library Control - Person that Checked Schematic: Stéfany (Ster); ComponentLink1Description: Mouser Link; ComponentLink1URL: https://br.mouser.com/ProductDetail/Yageo/RC0603JR-07100KL?qs=2cAdsCoAWRG9Rhqklpdeqg%3D%3D; ComponentLink2Description: Datasheet Link; ComponentLink2URL: https://br.mouser.com/datasheet/2/447/Yageo_03_18_2021_PYu_RC_Group_51_RoHS_L_11-2199992.pdf
footprint RESISTOR_0603
pins: 1, 2

## RC0603JR-07330RL
designator R?, comment 330R
RES SMD 330 OHM 5% 1/10W 0603; Manufacturer: Yageo; Part Number: RC0603JR-07330RL; Temperature Coefficient: 100 PPM / C; Power Rating: 100 mW (1/10 W); Voltage Rating: 75 V; Library Control - Checked Footprint: Yes; Library Control - Person that Checked Footprint: Stéfany (Ster); Library Control - Person that did the Last Update Footprint: Dalarme; Supplier 1: Mouser; Category: Thick Film Resistors - SMD; Price: 1=0,10, 10=0,015, 100=0,005 (USD); Package / Case: 0603 (1806 Metric); Operating Temperature: - 55ºC ~ 155ºC; Value: 330R; Tolerance: 5 %; Library Ref: Resistor; Resistor Type: Fixed; Size / Dimension: 1.6 mm L x  0.8 mm W x  0.45 mm H; Supplier Part Number 1: 603-RC0603JR-07330RL; Library Control - Checked Schematic: Yes; Library Control - Last Project that Used: -; Library Control - Last Update: 26/06/21 14:47; Library Control - Person that Checked Schematic: Stéfany (Ster); Library Control - Person that did the Last Update Schematic: Dalarme; ComponentLink1Description: Mouser Link; ComponentLink1URL: https://br.mouser.com/ProductDetail/Yageo/RC0603JR-07330RL?qs=P6JsaOY39iiskIKe5bFlJA%3D%3D; ComponentLink2Description: Datasheet; ComponentLink2URL: https://br.mouser.com/datasheet/2/447/Yageo_03_18_2021_PYu_RC_Group_51_RoHS_L_11-2199992.pdf
footprint RESISTOR_0603
pins: 1, 2

## RC0805FR-071ML
designator R?, comment 1MR
RES SMD 1M OHM 1% 1/8W 0805; Manufacturer: Yageo; Part Number: RC0805FR-071ML; Temperature Coefficient: 100 PPM / C; Power Rating: 125 mW (1/8 W); Voltage Rating: 150 V; Library Control - Checked Footprint: No; Library Control - Checked Schematic: Yes; Library Control - Person that Checked Schematic: Marcos; Library Control - Person that did the Last Update Footprint: Dalarme; Supplier 1: Mouser; Category: Thick Film Resistors - SMD; Price: 1=0,1, 10=0,04, 100=0,016 (USD); Package / Case: 0805 (2012 Metric); Operating Temperature: - 55ºC ~ 155ºC; Value: 1MR; Tolerance: 1 %; Library Ref: Resistor; Resistor Type: Fixo; Size / Dimension: 2 mm L x  1.25 mm W x  0.5 mm H; Supplier Part Number 1: 603-RC0805FR-071ML; Library Control - Last Update: 21/06/21 16:19; Library Control - Person that did the Last Update Schematic: Marcos; ComponentLink1Description: Mouser Link; ComponentLink1URL: https://www.mouser.com/ProductDetail/Yageo/RC0805FR-071ML?qs=%2Fha2pyFadug6QMX%2FAz0ggy676kqJeVfz3v%252BfCGhkOwd5E%252BJJshLQVQ==; ComponentLink2Description: Datasheet Link; ComponentLink2URL: https://www.mouser.com/datasheet/2/447/Yageo_03_18_2021_PYu_RC_Group_51_RoHS_L_11-2199992.pdf
footprint RESISTOR_0805
pins: 1, 2

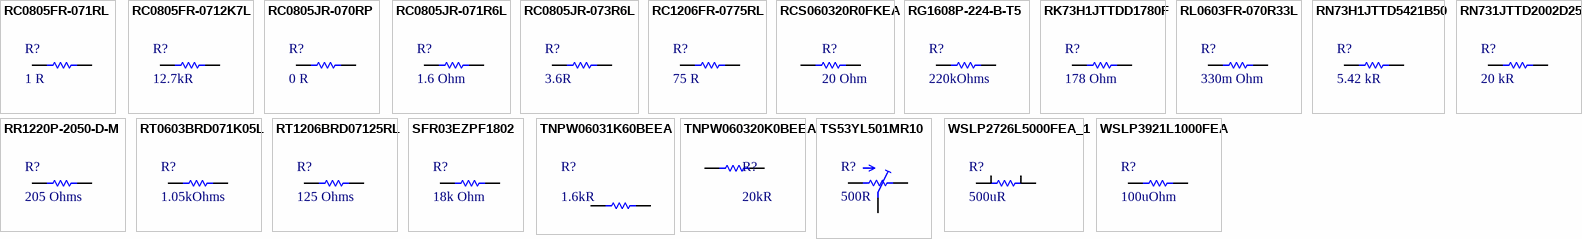
[diagram p3: symbols RC0805FR-071RL to WSLP3921L1000FEA]

## RC0805FR-071RL
designator R?, comment 1 R
RES SMD 1 OHM 1% 1/8W 0805; Manufacturer: Yageo; Part Number: RC0805FR-071RL; Temperature Coefficient: 200 PPM / C; Power Rating: 125mW (1/8 W); Voltage Rating: 150 V; Library Control - Checked Footprint: Yes; Library Control - Person that Checked Footprint: Nikaum; Library Control - Person that did the Last Update Footprint: Nicolas; Supplier 1: Mouser; Category: Thick Film Resistors - SMD; Price: 1 = 0,10, 10 = 0,06, 100 = 0,021 (USD); Package / Case: 0805 (2012 Metric); Operating Temperature: - 55 C~155 C; Value: 1 R; Tolerance: 1 %; Library Ref: Resistor; Resistor Type: Fixo; Size / Dimension: 2  L x 1,25 W x 0,5 H; Supplier Part Number 1: 603-RC0805FR-071RL; Library Control - Checked Schematic: Yes; Library Control - Last Update: 27/06/2021 21:14; Library Control - Person that Checked Schematic: Nikaum; Library Control - Person that did the Last Update Schematic: Nikaum; ComponentLink1Description: Mouser Link; ComponentLink1URL: https://br.mouser.com/ProductDetail/Yageo/RC0805FR-071RL?qs=8Y8p%252BasKcI5LWCyYnPKX0w%3D%3D; ComponentLink2Description: Datasheet Link; ComponentLink2URL: https://br.mouser.com/datasheet/2/447/Yageo_03_18_2021_PYu_RC_Group_51_RoHS_L_11-2199992.pdf
footprint RESISTOR_0805
pins: 1, 2

## RC0805FR-0712K7L
designator R?, comment 12.7kR
RES SMD 12.7K OHM 1% 1/8W 0805; Manufacturer: Yageo; Part Number: RC0805FR-0712K7L; Temperature Coefficient: 100 PPM / C; Power Rating: 125 mW (1/8 W); Voltage Rating: 150 V; Library Control - Checked Footprint: No; Library Control - Checked Schematic: Yes; Library Control - Person that Checked Schematic: Marcos; Library Control - Person that did the Last Update Footprint: Dalarme; Supplier 1: Mouser; Category: Thick Film Resistors - SMD; Price: 1=0,10, 10=0,036, 100=0,013 1000=0,008 (USD); Package / Case: 0805 (2012 Metric); Operating Temperature: - 55ºC ~ 155ºC; Value: 12.7kR; Tolerance: 1 %; Library Ref: Resistor; Resistor Type: Fixo; Size / Dimension: 2 mm L x  1.25 mm W x  0.5 mm H; Supplier Part Number 1: 603-RC0805FR-0712K7L; Library Control - Last Update: 21/06/21 14:30; Library Control - Person that did the Last Update Schematic: Marcos; ComponentLink1Description: Mouser Link; ComponentLink1URL: https://br.mouser.com/ProductDetail/Yageo/RC0805FR-0712K7L?qs=%2Fha2pyFadug6QMX%2FAz0ggy676kqJeVfzaaTNx0beTz55UL8CNdxkhUp2slxprCdz; ComponentLink2Description: Datasheet Link; ComponentLink2URL: https://br.mouser.com/datasheet/2/447/Yageo_03_18_2021_PYu_RC_Group_51_RoHS_L_11-2199992.pdf
footprint RESISTOR_0805
pins: 1, 2

## RC0805JR-070RP
designator R?, comment 0 R
RES SMD 0 OHM 5% 1/8W 0805; Manufacturer: Yageo; Part Number: RC0805JR-070RP; Temperature Coefficient: 200 PPM/ C; Power Rating: 125 mW (1/8 W); Voltage Rating: 150 V; Library Control - Checked Footprint: Yes; Library Control - Person that Checked Footprint: Nikaum; Library Control - Person that did the Last Update Footprint: Nicolas; Supplier 1: Mouser; Category: Thick Film Resistors - SMD; Price: 1=0,22, 10=0,053, 100=0,018 (USD); Package / Case: 0805 (2012 Metric); Operating Temperature: - 55°C ~ 155°C; Value: 0 R; Tolerance: 5 %; Library Ref: Resistor; Resistor Type: Fixo; Size / Dimension: 2,00 L x 1,25 W x 0,50 H; Supplier Part Number 1: 603-RC0805JR-070RP; Library Control - Checked Schematic: Yes; Library Control - Last Update: 27/06/2021 20:51; Library Control - Person that Checked Schematic: Nikaum; Library Control - Person that did the Last Update Schematic: Nikaum; ComponentLink1Description: Mouser Link; ComponentLink1URL: https://br.mouser.com/ProductDetail/Yageo/RC0805JR-070RP?qs=oypCK0zG3262sPkc1DiGRg%3D%3D; ComponentLink2Description: Datasheet; ComponentLink2URL: https://br.mouser.com/datasheet/2/447/Yageo_03_18_2021_PYu_RC_Group_51_RoHS_L_11-2199992.pdf
footprint RESISTOR_0805
pins: 1, 2

## RC0805JR-071R6L
designator R?, comment 1.6 Ohm
RES SMD 1.6 OHM 5% 1/8 W 0805; Manufacturer: YAGEO; Part Number: RC0805JR-071R6L; Temperature Coefficient: 200 PPM/C; Power Rating: 1/8 W; Voltage Rating: 150 V; Library Control - Person that did the Last Update Footprint: Breno (Omega); Supplier 1: Mouser; Category: Thick Film Resistor; Price: 1 = 0.22, 10 = 0.073, 100 = 0.03(USD); Package / Case: 0805; Operating Temperature: -55°C ~ 155°C; Value: 1.6 Ohm; Tolerance: 5%; Library Ref: Resistor; Resistor Type: Fixo; Size / Dimension: 1.25mm x 2mm x 0.5mm; Supplier Part Number 1: 603-RC0805JR-071R6L; Library Control - Person that did the Last Update Schematic: Breno (Omega); ComponentLink1Description: Mouser Link; ComponentLink1URL: https://br.mouser.com/ProductDetail/YAGEO/RC0805JR-071R6L?qs=EMpZKEXI8TFzvFH5hiCoiw%3D%3D; ComponentLink2Description: Datasheet; ComponentLink2URL: https://br.mouser.com/datasheet/2/447/PYu_RC_Group_51_RoHS_L_11-1984063.pdf
footprint RESISTOR_0805
pins: 1, 2